# Altium footprint library GPS-Module-PcbLib.PcbLib: 24 footprints (part 2 of 2)
Each footprint in its own frame and in the unit in brackets; x right, y up, seen from the top. Pads: shape width x height; smd on the part's side, far side on the other; paste and mask are expansions set on the pad; w line width, h text height; cw(c..) or ccw(c..) is an arc to the next point about the centre after c.
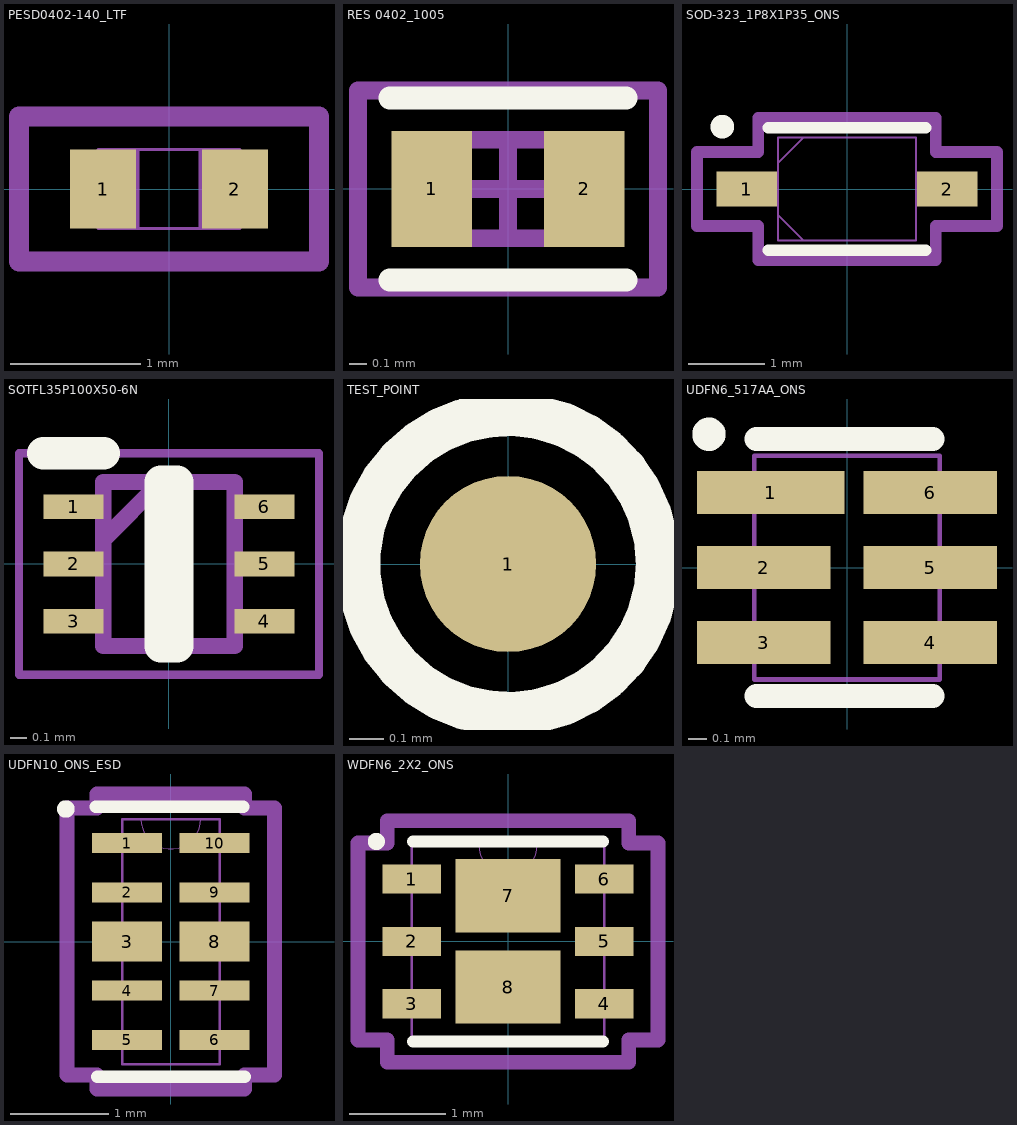
[diagram p1: the footprints below, top view; thin cyan lines are the x and y axes]

## PESD0402-140_LTF [mil]
pads (2):
  rect 20x24 smd paste+0 mask+0: 1(-20,0) 2(20,0)
Mechanical 13:
  lines w1: -21.5,-12 -21.5,12 ; -21.5,-12 21.5,-12 ; -21.5,-12 -9.5,-12 -9.5,12 -21.5,12 ; -21.5,-12 -21.5,12 ; -21.5,12 21.5,12 ; 21.5,-12 21.5,12 ; 21.5,-12 21.5,12 ; 21.5,-12 9.5,-12 9.5,12 21.5,12
Mechanical 15:
  lines w6: -45.5,-22 45.5,-22 45.5,22 -45.5,22 -45.5,-22
3D body "PESD0402-140.STEP": height 16.84, standoff 0, extent -19.68,-9.84 19.68,9.84

## RES 0402_1005 [mm] "Chip Resistor, 2-Leads, Body 1.0x0.5mm, IPC Medium Density"
height 0.4
pads (2):
  rect 0.45x0.65 smd mask+0.051: 1(-0.425,0) 2(0.425,0)
Top Overlay:
  lines w0.127: -0.66,-0.508 0.66,-0.508 ; -0.66,0.508 0.66,0.508
Mechanical 13:
  lines w0.1: -0.525,-0.275 0.525,-0.275 0.525,0.275 -0.525,0.275 -0.525,-0.275
Mechanical 15:
  lines w0.1: -0.275,0 0.275,0 ; 0,-0.275 0,0.275 ; -0.838,-0.55 0.838,-0.55 0.838,0.55 -0.838,0.55 -0.838,-0.55
3D body "0402 resistor.STEP": height 0.35, standoff 0, extent -0.5,-0.25 0.5,0.25

## SOD-323_1P8X1P35_ONS [mil]
pads (2):
  rect 31x18 smd paste+0 mask+0: 1(-51.5,0) 2(51.5,0)
Top Overlay:
  circle w10: c-64,32 r1
  lines w6: -40.5,-31.5 40.5,-31.5 ; -40.5,31.5 40.5,31.5
Mechanical 13:
  lines w1: -35.5,-13.25 -22.25,-26.5 ; -35.5,13.25 -22.25,26.5 ; -53,-8 -35.5,-8 -35.5,8 -53,8 -53,-8 ; -35.5,-26.5 -35.5,26.5 35.5,26.5 35.5,-26.5 -35.5,-26.5 ; 35.5,-8 53,-8 53,8 35.5,8 35.5,-8
Mechanical 15:
  lines w6: -77,-19 -45.5,-19 -45.5,-36.5 45.5,-36.5 45.5,-19 77,-19 77,19 45.5,19 45.5,36.5 -45.5,36.5 -45.5,19 -77,19 -77,-19
3D body "SOD-323_1P8X1P35_ONS.step": height 39.09, standoff 0, extent -52.99,-26.5 52.99,26.5

## SOTFL35P100X50-6N [mm]
pads (6):
  rect 0.365x0.15 smd mask+0.025: 1(-0.582,0.35) 2(-0.582,0) 3(-0.582,-0.35) 4(0.582,-0.35) 5(0.582,0) 6(0.582,0.35)
Top Overlay:
  lines w0.2: -0.765,0.675 -0.4,0.675 ; -0.05,-0.5 -0.05,0.5 0.05,0.5 0.05,-0.5 -0.05,-0.5
Mechanical 15:
  lines w0.1: -0.4,0.15 -0.05,0.5 ; -0.4,-0.5 -0.4,0.5 0.4,0.5 0.4,-0.5 -0.4,-0.5
Mechanical 20:
  lines w0.05: -0.915,-0.675 -0.915,0.675 0.915,0.675 0.915,-0.675 -0.915,-0.675
3D body "DMC2990UDJ-7.stp": height 0.5, standoff 0, extent -0.5,-0.5 0.5,0.5

## TEST_POINT [mil]
pads (1):
  round 20 smd mask+2: 1(0,0)
Top Overlay:
  circle w5: c0,0 r17

## UDFN6_517AA_ONS [mil]
pads (6):
  rect 31x9 smd paste+0 mask+0: 1(-16,15.75)
  rect 28x9 smd paste+0 mask+0: 2(-17.5,0) 3(-17.5,-15.75) 4(17.5,-15.75) 5(17.5,0) 6(17.5,15.75)
Top Overlay:
  circle w5: c-29,28 r1
  lines w5: -19,-27 18,-27 ; -19,27 18,27
Mechanical 13:
  lines w1: -19.5,-23.5 -19.5,23.5 19.5,23.5 19.5,-23.5 -19.5,-23.5 ; -19.5,-20.75 -19.5,-10.75 -19.5,-20.75 ; -19.5,-5 -19.5,5 -19.5,-5 ; -19.5,10.75 -19.5,20.75 -19.5,10.75 ; 19.5,-20.75 19.5,-10.75 19.5,-20.75 ; 19.5,-5 19.5,5 19.5,-5 ; 19.5,10.75 19.5,20.75 19.5,10.75
3D body "UDFN6_517AA_ONS.step": height 22.09, standoff 0, extent -21.5,-23.5 21.5,23.5

## UDFN10_ONS_ESD [mil]
pads (10):
  rect 28x8 smd paste+0 mask+0: 1(-17.5,39.37) 2(-17.5,19.68) 4(-17.5,-19.68) 5(-17.5,-39.37) 6(17.5,-39.37) 7(17.5,-19.68) 9(17.5,19.68) 10(17.5,39.37)
  rect 28x16 smd paste+0 mask+0: 3(-17.5,0) 8(17.5,0)
Top Overlay:
  circle w5: c-42,53 r1
  lines w5: -30,54 29,54 ; -29.5,-54 29.5,-54
Mechanical 13:
  lines w0: -12,49 ccw(c0,49) 12,49
  lines w1: -19.5,-49 -19.5,49 19.5,49 19.5,-49 -19.5,-49
Mechanical 15:
  lines w6: -41.5,-53.37 -29.5,-53.37 -29.5,-59 29.5,-59 29.5,-53.37 41.5,-53.37 41.5,53.37 29.5,53.37 29.5,59 -29.5,59 -29.5,53.37 -41.5,53.37 -41.5,-53.37
3D body "ESD7104MUTAG.step": height 21.65, standoff 0, extent -19.68,-49.21 19.68,49.21

## WDFN6_2X2_ONS [mil]
pads (8):
  rect 24x12 smd paste+0 mask+0: 1(-39.5,25.59) 2(-39.5,0) 3(-39.5,-25.59) 4(39.5,-25.59) 5(39.5,0) 6(39.5,25.59)
  rect 43x30 smd paste+0 mask+0: 7(0,18.7) 8(0,-18.7)
Top Overlay:
  circle w5: c-54,41 r1
  lines w5: -39,-41 39,-41 ; -39,41 39,41
Mechanical 13:
  lines w0: -12,39.5 ccw(c0,39.5) 12,39.5
  lines w1: -39.5,-39.5 39.5,-39.5 39.5,39.5 -39.5,39.5 -39.5,-39.5
Mechanical 15:
  lines w6: -61.5,-40.39 -61.5,40.39 -49.5,40.39 -49.5,49.5 49.5,49.5 49.5,40.39 61.5,40.39 61.5,-40.39 49.5,-40.39 49.5,-49.5 -49.5,-49.5 -49.5,-40.39 -61.5,-40.39
3D body "NCV8705MT33TCG.STEP": height 31.5, standoff 0, extent -39.37,-39.37 39.37,39.37